# EAGLE library part 4PDT (library SSv3_1)
4 pole, double thrown slide switch (4PDT). Common pins = 2, 5, 8 & 11 Slide toward "ALCO": 2->1, 5->4, 8->7, 11->10 Slide away from "ALCO": 2->3, 5->6, 8->9, 11->12
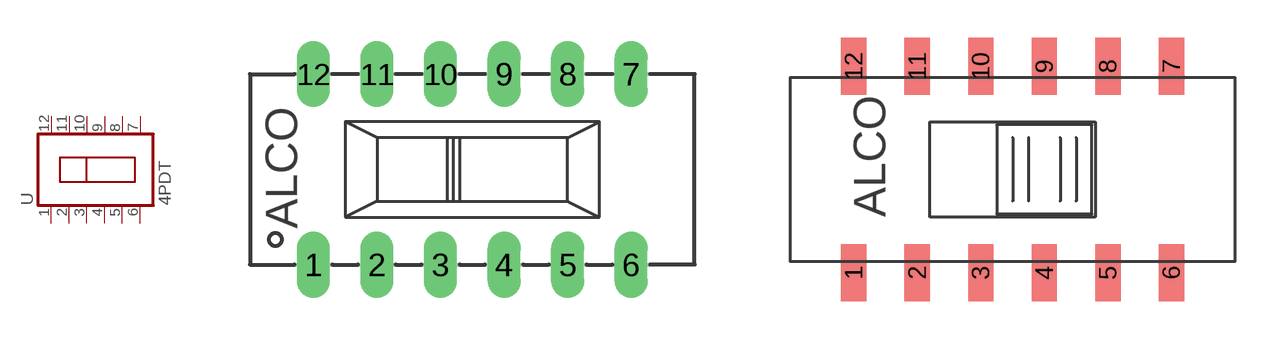
[diagram p4: symbol with the pads of 4PDT-DIP; footprints 4PDT-DIP, 4PDT_SMD]

Designator prefix -

## 4PDTDIP  [4PDT-DIP]
1  1  pas
2  2  pas
3  3  pas
4  4  pas
5  5  pas
6  6  pas
7  7  pas
8  8  pas
9  9  pas
10  10  pas
11  11  pas
12  12  pas

## 4PDTSMD_GULL_WING  [4PDT_SMD]
Pads as for 4PDT-DIP

## Footprint 4PDT-DIP (pad centres in mm)
drill 0.813 long: 1 -6.35,-3.81; 2 -3.81,-3.81; 3 -1.27,-3.81; 4 1.27,-3.81; 5 3.81,-3.81; 6 6.35,-3.81; 7 6.35,3.81; 8 3.81,3.81; 9 1.27,3.81; 10 -1.27,3.81; 11 -3.81,3.81; 12 -6.35,3.81

## Footprint 4PDT_SMD (pad centres in mm)
smd 1.016 x 2.286: 1 -6.35,-4.128; 2 -3.81,-4.128; 3 -1.27,-4.128; 4 1.27,-4.128; 5 3.81,-4.128; 6 6.35,-4.128; 7 6.35,4.128; 8 3.81,4.128; 9 1.27,4.128; 10 -1.27,4.128; 11 -3.81,4.128; 12 -6.35,4.128